# EAGLE library part SGM8052 (library SGM80xx)
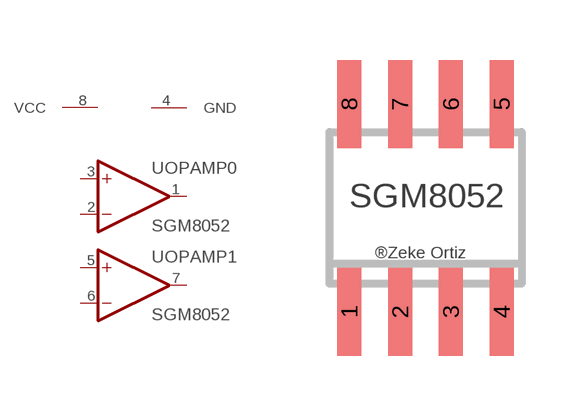
[diagram p0: symbol with the pads of SOIC8; footprint SOIC8]

Designator prefix -; gates OPAMP0=OPAMP OPAMP1=OPAMP G$1=PWRN

## SGM8052  [SOIC8]
1  OPAMP0:OUT  out
2  OPAMP0:-IN  in
3  OPAMP0:+IN  in
4  G$1:GND  out
5  OPAMP1:+IN  in
6  OPAMP1:-IN  in
7  OPAMP1:OUT  out
8  G$1:VCC  in

## Footprint SOIC8 (pad centres in mm)
Small Outline IC
smd 0.6 x 2.2: 1 -1.905,-2.6; 2 -0.635,-2.6; 3 0.635,-2.6; 4 1.905,-2.6; 5 1.905,2.6; 6 0.635,2.6; 7 -0.635,2.6; 8 -1.905,2.6